# Altium footprint library PcbLib1.PcbLib: 4 footprints
Each footprint in its own frame and in the unit in brackets; x right, y up, seen from the top. Pads: shape width x height; smd on the part's side, far side on the other; paste and mask are expansions set on the pad; w line width, h text height; cw(c..) or ccw(c..) is an arc to the next point about the centre after c.
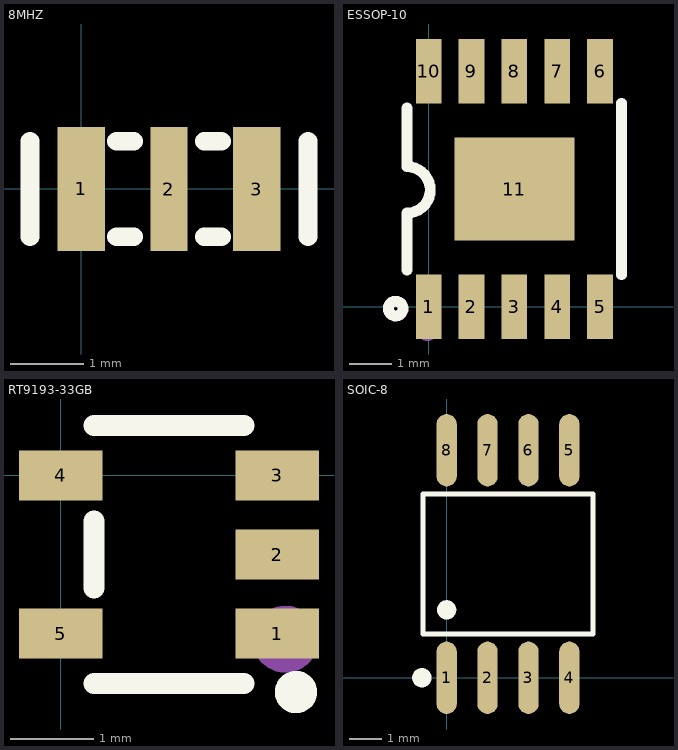
[diagram p0: the footprints below, top view; thin cyan lines are the x and y axes]

## 8MHZ [mm]
pads (3):
  rect 0.65x1.7 smd: 1(0,0) 3(2.4,0)
  rect 0.5x1.7 smd: 2(1.2,0)
Top Overlay:
  lines w0.254: -0.7,-0.65 -0.7,0.65 ; 0.482,-0.65 0.719,-0.65 ; 0.482,0.65 0.719,0.65 ; 1.681,-0.65 1.918,-0.65 ; 1.681,0.65 1.918,0.65 ; 3.1,-0.65 3.1,0.65
Mechanical 15:
  lines w0.003: 1.615,0.495 1.615,0.496

## ESSOP-10 [mm] "CH341K"
pads (11):
  rect 0.6x1.5 smd: 1(0,0) 2(1,0) 3(2,0) 4(3,0) 5(4,0) 6(4,5.5) 7(3,5.5) 8(2,5.5) 9(1,5.5) 10(0,5.5)
  rect 2.8x2.4 smd: 11(2,2.75)
Top Overlay:
  circle w0.254: c-0.77,-0.04 r0.171
  lines w0.254: -0.5,0.863 -0.5,2.186 ; -0.5,2.187 ccw(c-0.504,2.728) -0.5,3.27 -0.5,4.637 ; 4.5,0.75 4.5,4.75
Mechanical 15:
  circle w0.2: c-0.03,-0.6 r0.1

## RT9193-33GB [mm]
pads (5):
  rect 1x0.6 smd: 1(2.6,-1.9) 2(2.6,-0.95) 3(2.6,0) 4(0,0) 5(0,-1.9)
Top Overlay:
  circle w0.254: c2.824,-2.601 r0.127
  lines w0.254: 0.4,-2.5 2.2,-2.5 ; 0.4,-1.35 0.4,-0.55 ; 0.4,0.6 2.2,0.6
Mechanical 15:
  circle w0.4: c2.697,-1.966 r0.2

## SOIC-8 [mm] "W25Q64"
pads (8):
  oval 0.63x2.25 smd: 1(0,0) 2(1.27,0) 3(2.54,0) 4(3.81,0) 5(3.81,7.06) 6(2.54,7.06) 7(1.27,7.06) 8(0,7.06)
Top Overlay:
  circle w0.3: c0,2.106 r0.15
  circle w0.3: c-0.767,0 r0.15
  lines w0.152: -0.734,1.354 -0.734,5.706 4.544,5.706 4.544,1.354 -0.734,1.354
Mechanical 15:
  circle w0.3: c0,-0.82 r0.15